# EAGLE library part ADXL346 (library Pinoccio)
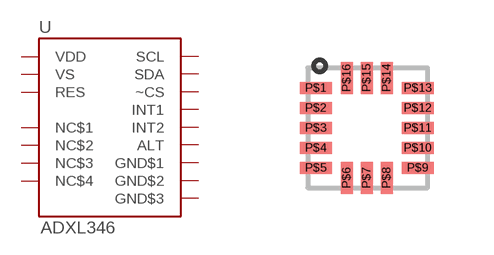
[diagram p48: symbol with the pads of ADXL346; footprint ADXL346]

Designator prefix -

## ADXL346  [ADXL346]
P$1  VDD
P$2  NC$1
P$3  NC$2
P$4  SCL
P$5  NC$3
P$6  SDA
P$7  ALT
P$8  ~CS
P$9  INT2
P$10  NC$4
P$11  INT1
P$12  GND$1
P$13  GND$2
P$14  VS
P$15  RES
P$16  GND$3

## Footprint ADXL346 (pad centres in mm)
smd 0.8 x 0.3: P$1 0.4,2.15; P$2 0.4,1.65; P$3 0.4,1.15; P$4 0.4,0.65; P$5 0.4,0.15; P$9 2.95,0.15; P$10 2.95,0.65; P$11 2.95,1.15; P$12 2.95,1.65; P$13 2.95,2.15
smd 0.3 x 0.8: P$6 1.175,-0.1; P$7 1.675,-0.1; P$8 2.175,-0.1; P$14 2.175,2.4; P$15 1.675,2.4; P$16 1.175,2.4